# EAGLE library part DFHC-70DS-0.4V (library UsefulConnectors)
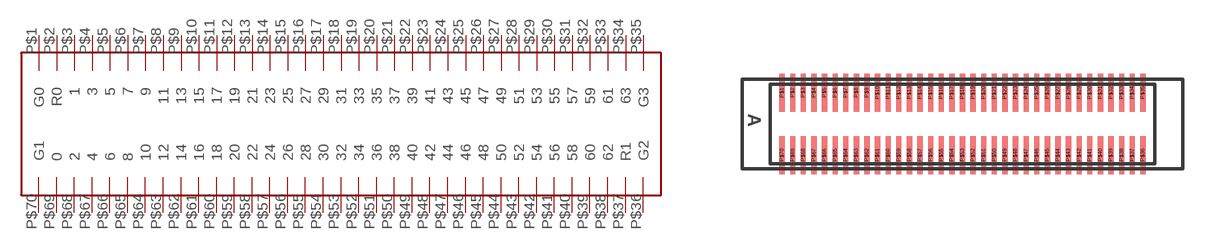
[diagram p8: symbol with the pads of DF40HC-70DS-0.4V; footprint DF40HC-70DS-0.4V]

Designator prefix -

## DFHC-70DS-0.4V  [DF40HC-70DS-0.4V]
P$1  G0
P$2  R0
P$3  1
P$4  3
P$5  5
P$6  7
P$7  9
P$8  11
P$9  13
P$10  15
P$11  17
P$12  19
P$13  21
P$14  23
P$15  25
P$16  27
P$17  29
P$18  31
P$19  33
P$20  35
P$21  37
P$22  39
P$23  41
P$24  43
P$25  45
P$26  47
P$27  49
P$28  51
P$29  53
P$30  55
P$31  57
P$32  59
P$33  61
P$34  63
P$35  G3
P$36  G2
P$37  R1
P$38  62
P$39  60
P$40  58
P$41  56
P$42  54
P$43  52
P$44  50
P$45  48
P$46  46
P$47  44
P$48  42
P$49  40
P$50  38
P$51  36
P$52  34
P$53  32
P$54  30
P$55  28
P$56  26
P$57  24
P$58  22
P$59  20
P$60  18
P$61  16
P$62  14
P$63  12
P$64  10
P$65  8
P$66  6
P$67  4
P$68  2
P$69  0
P$70  G1

## Footprint DF40HC-70DS-0.4V (pad centres in mm)
smd 0.2 x 1.43: P$1 -6.8,1.175; P$2 -6.4,1.175; P$3 -6,1.175; P$4 -5.6,1.175; P$5 -5.2,1.175; P$6 -4.8,1.175; P$7 -4.4,1.175; P$8 -4,1.175; P$9 -3.6,1.175; P$10 -3.2,1.175; P$11 -2.8,1.175; P$12 -2.4,1.175; P$13 -2,1.175; P$14 -1.6,1.175; P$15 -1.2,1.175; P$16 -0.8,1.175; P$17 -0.4,1.175; P$18 0,1.175; P$19 0.4,1.175; P$20 0.8,1.175; P$21 1.2,1.175; P$22 1.6,1.175; P$23 2,1.175; P$24 2.4,1.175; P$25 2.8,1.175; P$26 3.2,1.175; P$27 3.6,1.175; P$28 4,1.175; P$29 4.4,1.175; P$30 4.8,1.175; P$31 5.2,1.175; P$32 5.6,1.175; P$33 6,1.175; P$34 6.4,1.175; P$35 6.8,1.175; P$36 6.8,-1.175; P$37 6.4,-1.175; P$38 6,-1.175; P$39 5.6,-1.175; P$40 5.2,-1.175; P$41 4.8,-1.175; P$42 4.4,-1.175; P$43 4,-1.175; P$44 3.6,-1.175; P$45 3.2,-1.175; P$46 2.8,-1.175; P$47 2.4,-1.175; P$48 2,-1.175; P$49 1.6,-1.175; P$50 1.2,-1.175; P$51 0.8,-1.175; P$52 0.4,-1.175; P$53 0,-1.175; P$54 -0.4,-1.175; P$55 -0.8,-1.175; P$56 -1.2,-1.175; P$57 -1.6,-1.175; P$58 -2,-1.175; P$59 -2.4,-1.175; P$60 -2.8,-1.175; P$61 -3.2,-1.175; P$62 -3.6,-1.175; P$63 -4,-1.175; P$64 -4.4,-1.175; P$65 -4.8,-1.175; P$66 -5.2,-1.175; P$67 -5.6,-1.175; P$68 -6,-1.175; P$69 -6.4,-1.175; P$70 -6.8,-1.175